# Altium schematic symbol library NetTie.SchLib: 9 symbols
Pins are listed as number, name and electrical type; pins without a type are passive.

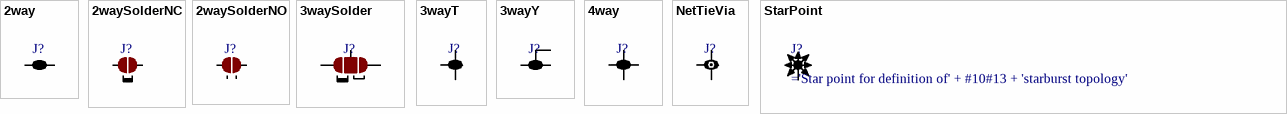
[diagram p0: symbols 2way to StarPoint]

## 2way
designator J?, comment 2 way net tie junction  (value not drawn)  (net tie, no BOM)
ComponentLink1URL: http://www.edatools.cz/addons; ComponentLink1Description: Source; FootprintNote: LP=12mil, MP=40mil, HP=120mil
footprint 2way_LP (2 way low power net tie junction)
footprint 2way_MP (2 way medium power net tie junction)
footprint 2way_HP (2 way high power power net tie junction)
pins: 1, 2

## 2waySolderNC
designator J?, comment 2 way net solder junction - Normally Connected  (value not drawn)  (no BOM)
ComponentLink1URL: http://www.edatools.cz/addons; ComponentLink1Description: Source
footprint 2waySolder_NC (2 way net solder junction - Normally Connected)
pins: 1, 2

## 2waySolderNO
designator J?, comment 2 way net solder junction - Normally Open  (value not drawn)  (no BOM)
ComponentLink1URL: http://www.edatools.cz/addons; ComponentLink1Description: Source
footprint 2waySolder_NO (2 way net solder junction - Normally Open)
pins: 1, 2

## 3waySolder
designator J?, comment 3 way net solder junction  (value not drawn)  (no BOM)
ComponentLink1URL: http://www.edatools.cz/addons; ComponentLink1Description: Source; FootprintNote: LP=12mil, MP=40mil, HP=120mil
footprint 3waySolder (3 way net solder junction)
pins: 1, 2, 3

## 3wayT
designator J?, comment 3 way net tie junction T shape  (value not drawn)  (net tie, no BOM)
Note: 2 display modes available; ComponentLink1URL: http://www.edatools.cz/addons; ComponentLink1Description: Source; FootprintNote: LP=12mil, MP=40mil, HP=120mil
footprint 3wayT_LP (3 way low power net tie T shape junction)
footprint 3wayT_MP (3 way medium power net tie T shape junction)
footprint 3wayT_HP (3 way high power power net tie T shape junction)
pins: 1, 2, 3

## 3wayY
designator J?, comment 3 way net tie junction Y shape  (value not drawn)  (net tie, no BOM)
ComponentLink1URL: http://www.edatools.cz/addons; ComponentLink1Description: Source; FootprintNote: LP=12mil, MP=40mil, HP=120mil
footprint 3wayY_LP (3 way low power net tie Y shape junction)
footprint 3wayY_MP (3 way medium power net tie Y shape junction)
footprint 3wayY_HP (3 way high power power net tie Y shape junction)
pins: 1, 2, 3
1 alternate drawing of the same symbol

## 4way
designator J?, comment 4 way net tie junction  (value not drawn)  (net tie, no BOM)
Note: 2 display modes available; ComponentLink1URL: http://www.edatools.cz/addons; ComponentLink1Description: Source; FootprintNote: LP=12mil, MP=40mil, HP=120mil
footprint 4way_LP (4 way low power net tie junction)
footprint 4way_MP (4 way medium power net tie junction)
footprint 4way_HP (4 way high power power net tie junction)
pins: 1, 2, 3, 4
1 alternate drawing of the same symbol

## NetTieVia
designator J?, comment Net Tie Via  (value not drawn)  (net tie, no BOM)
ComponentLink1URL: http://www.edatools.cz/addons; ComponentLink1Description: Source
footprint NetTieVia03 (Net Tie Via 0.3mm)
footprint NetTieVia06 (Net Tie Via 0.6mm)
footprint NetTieVia08 (Net Tie Via 0.8mm)
pins: 1, 2, 3

## StarPoint
designator J?  (no BOM)
Star point for definition of starburst topology; Note: Add routing topology rule in PCB to desired net; ComponentLink1URL: http://www.edatools.cz/addons; ComponentLink1Description: Source
footprint StarPoint (Star point for definition of starburst topology)
pins: 1